# Altium footprint library SMT_CHIP.PcbLib: 17 footprints (part 1 of 2)
Each footprint in its own frame and in the unit in brackets; x right, y up, seen from the top. Pads: shape width x height; smd on the part's side, far side on the other; paste and mask are expansions set on the pad; w line width, h text height; cw(c..) or ccw(c..) is an arc to the next point about the centre after c.
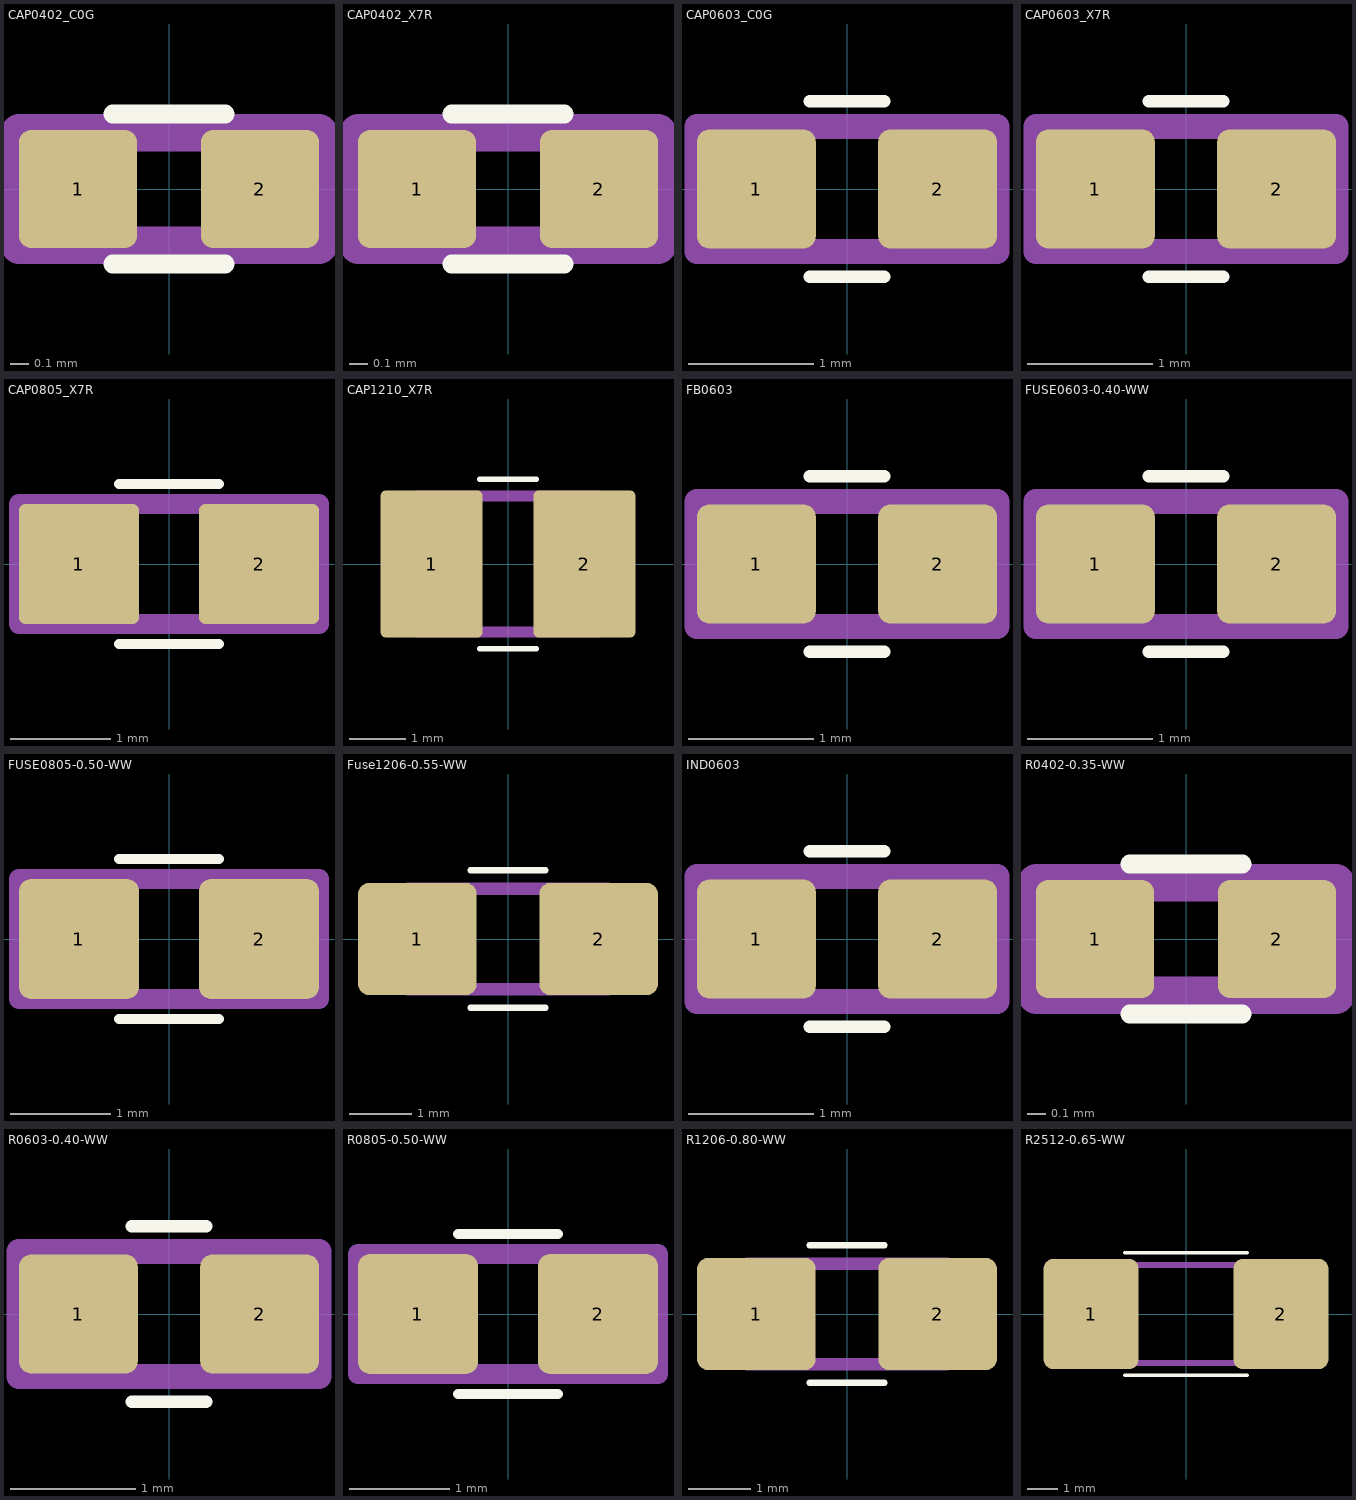
[diagram p0: the footprints below, top view; thin cyan lines are the x and y axes]

## CAP0402_C0G [mm]
height 0.4
pads (2):
  rrect20% 0.63x0.63 smd: 1(-0.485,0) 2(0.485,0)
Top Overlay:
  lines w0.1: -0.3,-0.4 0.3,-0.4 ; -0.3,0.4 0.3,0.4
Top Assembly:
  lines w0.2: -0.8,-0.3 -0.8,0.3 0.8,0.3 0.8,-0.3 -0.8,-0.3
3D body "CAP-0402_C0G.stp": height 0.39, standoff 0.01, extent -0.533,-0.273 0.533,0.273

## CAP0402_X7R [mm]
height 0.4
pads (2):
  rrect20% 0.63x0.63 smd: 1(-0.485,0) 2(0.485,0)
Top Overlay:
  lines w0.1: -0.3,-0.4 0.3,-0.4 ; -0.3,0.4 0.3,0.4
Top Assembly:
  lines w0.2: -0.8,-0.3 -0.8,0.3 0.8,0.3 0.8,-0.3 -0.8,-0.3
3D body "CAP-0402_X7R.stp": height 0.39, standoff 0.01, extent -0.533,-0.273 0.533,0.273

## CAP0603_C0G [mm]
height 0.4
pads (2):
  rrect20% 0.95x0.95 smd: 1(-0.725,0) 2(0.725,0)
Top Overlay:
  lines w0.1: -0.3,-0.7 0.3,-0.7 ; -0.3,0.7 0.3,0.7
Top Assembly:
  lines w0.2: -1.2,-0.5 1.2,-0.5 1.2,0.5 -1.2,0.5 -1.2,-0.5
3D body "CAP-0603_C0G.step": height 0.57, standoff 0, extent -0.8,-0.41 0.8,0.41

## CAP0603_X7R [mm]
height 0.4
pads (2):
  rrect20% 0.95x0.95 smd: 1(-0.725,0) 2(0.725,0)
Top Overlay:
  lines w0.1: -0.3,-0.7 0.3,-0.7 ; -0.3,0.7 0.3,0.7
Top Assembly:
  lines w0.2: -1.2,-0.5 -1.2,0.5 1.2,0.5 1.2,-0.5 -1.2,-0.5
3D body "CAP-0603.step": height 0.57, standoff 0, extent -0.8,-0.41 0.8,0.41

## CAP0805_X7R [mm] "Chip Capacitor 0805mil / 2012mm"
height 1.524
pads (2):
  rrect10% 1.2x1.2 smd: 1(-0.9,0) 2(0.9,0)
Top Overlay:
  lines w0.1: -0.5,-0.8 0.5,-0.8 ; -0.5,0.8 0.5,0.8
Top Assembly:
  lines w0.2: -1.5,-0.6 -1.5,0.6 1.5,0.6 1.5,-0.6 -1.5,-0.6
3D body "CAP-0805_X7R.step": height 0.72, standoff 0.01, extent -1,-0.512 1,0.513

## CAP1210_X7R [mm] "Chip Capacitor 1210mil / 3225mm"
height 1.524
pads (2):
  rrect10% 1.8x2.6 smd: 1(-1.35,0) 2(1.35,0)
Top Overlay:
  lines w0.1: -0.5,-1.5 0.5,-1.5 ; -0.5,1.5 0.5,1.5
Top Assembly:
  lines w0.2: -1.6,-1.2 -1.6,1.2 1.6,1.2 1.6,-1.2 -1.6,-1.2
3D body "CAP-1210_X7R.stp": height 1.91, standoff 0.01, extent -1.6,-1.25 1.6,1.25

## FB0603 [mm]
height 0.4
pads (2):
  rrect20% 0.95x0.95 smd: 1(-0.725,0) 2(0.725,0)
Top Overlay:
  lines w0.1: -0.3,-0.7 0.3,-0.7 ; -0.3,0.7 0.3,0.7
Top Assembly:
  lines w0.2: -1.2,-0.5 1.2,-0.5 1.2,0.5 -1.2,0.5 -1.2,-0.5
3D body "FB-0603.stp": height 1, standoff 0, extent -0.8,-0.4 0.8,0.4

## FUSE0603-0.40-WW [mm]
height 0.4
pads (2):
  rrect20% 0.95x0.95 smd: 1(-0.725,0) 2(0.725,0)
Top Overlay:
  lines w0.1: -0.3,-0.7 0.3,-0.7 ; -0.3,0.7 0.3,0.7
Top Assembly:
  lines w0.2: -1.2,-0.5 -1.2,0.5 1.2,0.5 1.2,-0.5 -1.2,-0.5
3D body "FUSE1608X025.stp": height 0.29, standoff 0.01, extent -0.8,-0.4 0.8,0.4

## FUSE0805-0.50-WW [mm]
height 0.5
pads (2):
  rrect20% 1.2x1.2 smd: 1(-0.9,0) 2(0.9,0)
Top Overlay:
  lines w0.1: -0.5,-0.8 0.5,-0.8 ; -0.5,0.8 0.5,0.8
Top Assembly:
  lines w0.2: -1.5,-0.6 1.5,-0.6 1.5,0.6 -1.5,0.6 -1.5,-0.6
3D body "FUSE2012X040.stp": height 0.38, standoff 0, extent -1.067,-0.533 1.067,0.533

## Fuse1206-0.55-WW [mm]
height 0.8
pads (2):
  rrect20% 1.9x1.8 smd: 1(-1.45,0) 2(1.45,0)
Top Overlay:
  lines w0.1: -0.6,-1.1 0.6,-1.1 ; -0.6,1.1 0.6,1.1
Top Assembly:
  lines w0.2: -1.6,-0.8 -1.6,0.8 1.6,0.8 1.6,-0.8 -1.6,-0.8
3D body "FUSE3216X055.stp": height 0.62, standoff 0.05, extent -1.6,-0.8 1.6,0.8

## IND0603 [mm]
height 0.4
pads (2):
  rrect20% 0.95x0.95 smd: 1(-0.725,0) 2(0.725,0)
Top Overlay:
  lines w0.1: -0.3,-0.7 0.3,-0.7 ; -0.3,0.7 0.3,0.7
Top Assembly:
  lines w0.2: -1.2,-0.5 1.2,-0.5 1.2,0.5 -1.2,0.5 -1.2,-0.5
3D body "IND-0603.step": height 1, standoff 0, extent -0.8,-0.4 0.8,0.4

## R0402-0.35-WW [mm]
height 0.4
pads (2):
  rrect20% 0.63x0.63 smd: 1(-0.485,0) 2(0.485,0)
Top Overlay:
  lines w0.1: -0.3,-0.4 0.3,-0.4 ; -0.3,0.4 0.3,0.4
Top Assembly:
  lines w0.2: -0.8,-0.3 0.8,-0.3 0.8,0.3 -0.8,0.3 -0.8,-0.3
3D body "RES-0402.stp": height 0.21, standoff 0.01, extent -0.533,-0.267 0.533,0.267

## R0603-0.40-WW [mm]
height 0.4
pads (2):
  rrect20% 0.95x0.95 smd: 1(-0.725,0) 2(0.725,0)
Top Overlay:
  lines w0.1: -0.3,-0.7 0.3,-0.7 ; -0.3,0.7 0.3,0.7
Top Assembly:
  lines w0.2: -1.2,-0.5 -1.2,0.5 1.2,0.5 1.2,-0.5 -1.2,-0.5
3D body "RES-0603.step": height 0.3, standoff 0, extent -0.8,-0.4 0.8,0.4

## R0805-0.50-WW [mm]
height 0.5
pads (2):
  rrect20% 1.2x1.2 smd: 1(-0.9,0) 2(0.9,0)
Top Overlay:
  lines w0.1: -0.5,-0.8 0.5,-0.8 ; -0.5,0.8 0.5,0.8
Top Assembly:
  lines w0.2: -1.5,-0.6 1.5,-0.6 1.5,0.6 -1.5,0.6 -1.5,-0.6
3D body "RES-0805.stp": height 0.37, standoff -0.01, extent -1,-0.5 1,0.5

## R1206-0.80-WW [mm]
height 0.8
pads (2):
  rrect20% 1.9x1.8 smd: 1(-1.45,0) 2(1.45,0)
Top Overlay:
  lines w0.1: -0.6,-1.1 0.6,-1.1 ; -0.6,1.1 0.6,1.1
Top Assembly:
  lines w0.2: -1.6,-0.8 -1.6,0.8 1.6,0.8 1.6,-0.8 -1.6,-0.8
3D body "RES-1206.stp": height 0.62, standoff 0.02, extent -1.6,-0.8 1.6,0.8

## R2512-0.65-WW [mm]
height 0.8
pads (2):
  rrect20% 3.1x3.6 smd: 1(-3.1,0) 2(3.1,0)
Top Overlay:
  lines w0.1: -2,-2 2,-2 ; -2,2 2,2
Top Assembly:
  lines w0.2: -3.2,-1.6 3.2,-1.6 3.2,1.6 -3.2,1.6 -3.2,-1.6
3D body "RES-2512.stp": height 0.68, standoff 0.02, extent -3.2,-1.6 3.2,1.6